# Altium footprint library Resistance.PcbLib: 24 footprints (part 1 of 2)
Each footprint in its own frame and in the unit in brackets; x right, y up, seen from the top. Pads: shape width x height; smd on the part's side, far side on the other; paste and mask are expansions set on the pad; w line width, h text height; cw(c..) or ccw(c..) is an arc to the next point about the centre after c.
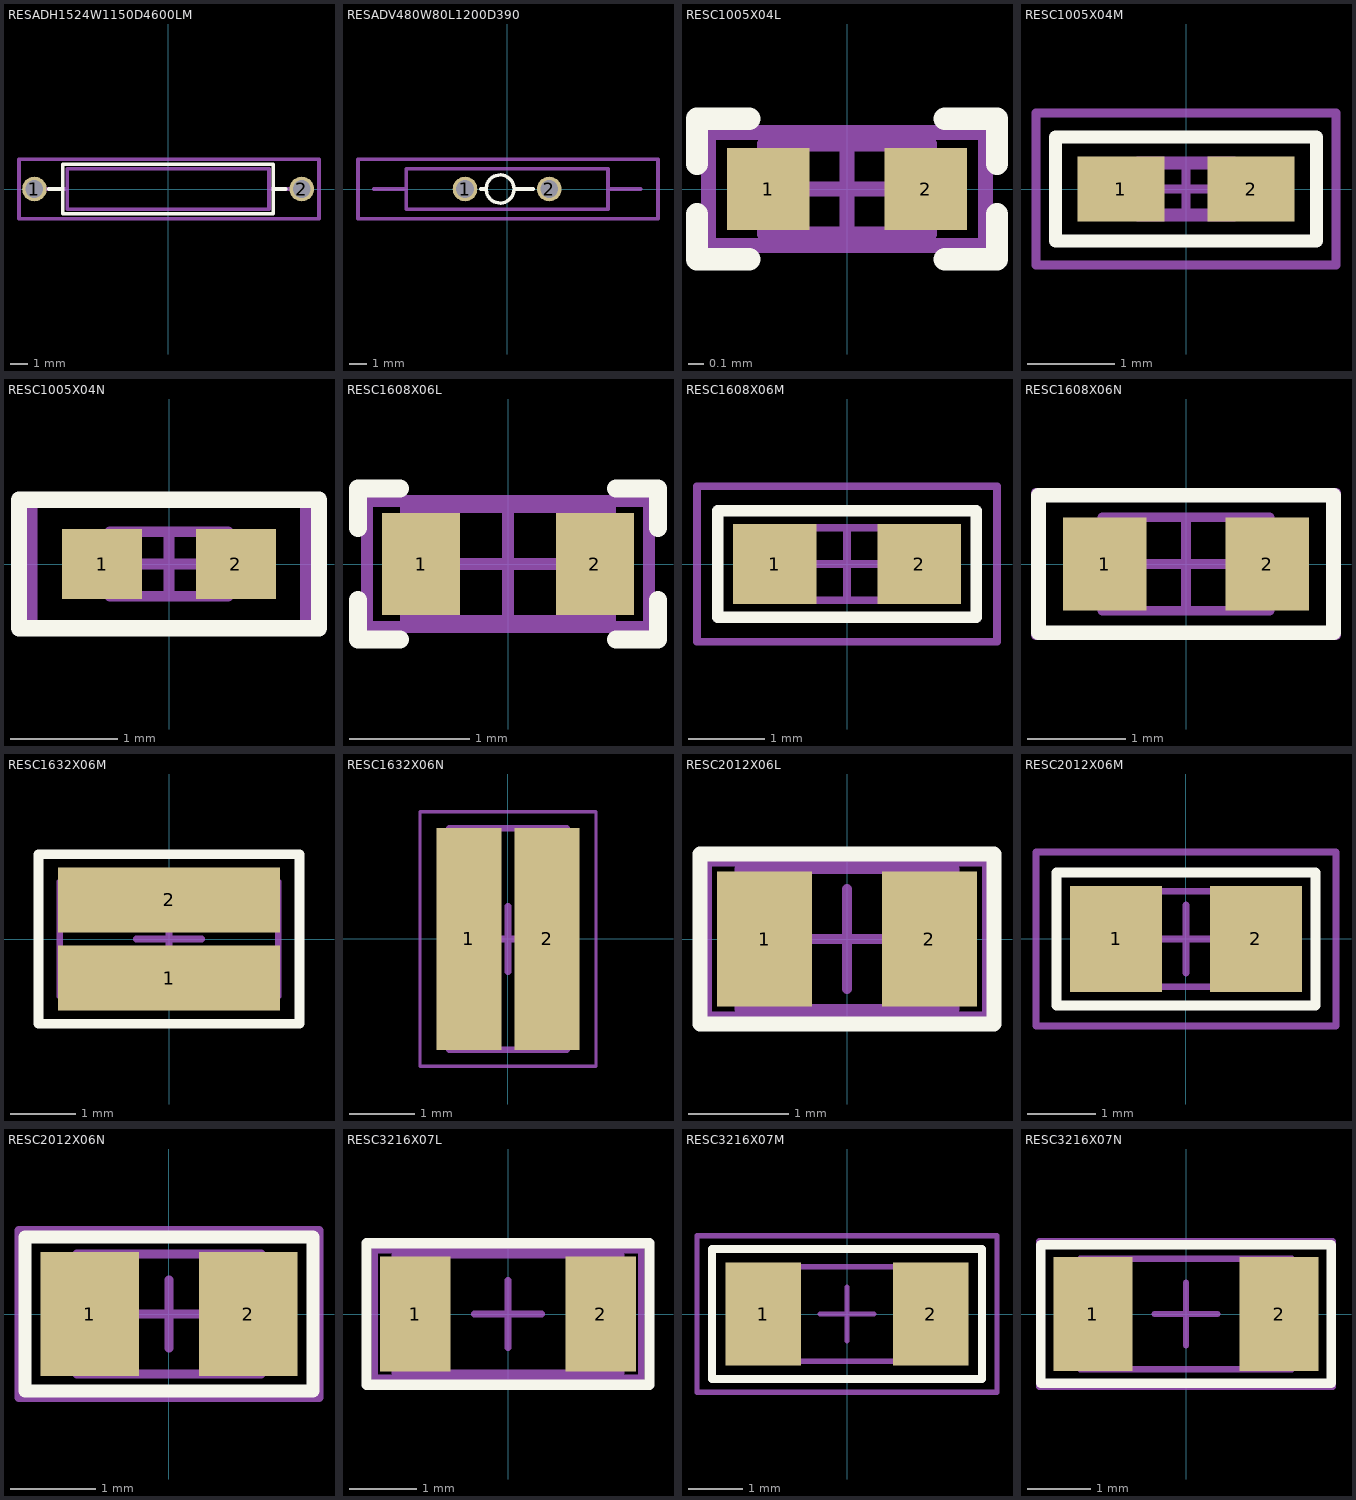
[diagram p0: the footprints below, top view; thin cyan lines are the x and y axes]

## RESADH1524W1150D4600LM [mm] "Wirebound Resistor pitch 15.24mm"
height 5.1
pads (2):
  round 1.4 hole 1: 1(-7.62,0) 2(7.62,0)
Top Overlay:
  lines w0.2: -6.8,0 -6,0 ; 6,0 6.695,0 ; -6,-1.4 -6,1.4 6,1.4 6,-1.4 -6,-1.4
Mechanical 7:
  lines w0.2: -7.6,0 -5.75,0 ; 5.77,0 7.62,0 ; -5.75,-1.15 -5.75,1.15 5.75,1.15 5.75,-1.15 -5.75,-1.15
  text ".Designator" at -5.5,-0.5 h1.2
Mechanical 9:
  lines w0.2: -8.5,-1.7 8.6,-1.7 8.6,1.7 -8.5,1.7 -8.5,-1.7
3D body "User Library-Half_watt_resistor_500spacing.step": height 4.18, standoff -5.2, extent -6.755,-1.875 6.695,1.875

## RESADV480W80L1200D390 [mm] "Wirebound Resistor pitch 4.8mm Radial tape"
height 12.5
pads (2):
  round 1.4 hole 1: 1(-2.4,0) 2(2.4,0)
Top Overlay:
  circle w0.2: c-0.4,0 r0.8
  lines w0.2: -1.5,0 -1.2,0 ; 0.4,0 1.5,0
Mechanical 7:
  lines w0.2: -7.6,0 -5.75,0 ; 5.77,0 7.62,0 ; -5.75,-1.15 -5.75,1.15 5.75,1.15 5.75,-1.15 -5.75,-1.15
  text ".Designator" at -5.5,-0.5 h1.2
Mechanical 9:
  lines w0.2: -8.5,-1.7 8.6,-1.7 8.6,1.7 -8.5,1.7 -8.5,-1.7
3D body "User Library-RESAD375W80L1600D500_2W.STEP": height 20.3, standoff -3.1, extent -4.225,-2.4 2.425,2.6

## RESC1005X04L [mm] "Chip Resistor, 2-Leads, Body 1,1x0,5mm, IPC High Density"
height 0.4
pads (2):
  rect 0.55x0.55 smd: 1(-0.525,0) 2(0.525,0)
Top Overlay:
  lines w0.15: -1,-0.17 -1,-0.47 -0.65,-0.47 ; -1,0.17 -1,0.47 -0.65,0.47 ; 0.65,-0.47 1,-0.47 1,-0.17 ; 0.65,0.47 1,0.47 1,0.17
Mechanical 7:
  lines w0.1: -0.55,-0.3 -0.55,0.3 0.55,0.3 0.55,-0.3 -0.55,-0.3
  text ".Designator" at -0.4,-0.2 h1.2
Mechanical 9:
  lines w0.1: -0.925,-0.375 -0.925,0.375 0.925,0.375 0.925,-0.375 -0.925,-0.375
Mechanical 15:
  lines w0.1: -0.3,0 0.3,0 ; 0,-0.3 0,0.3
3D body "User Library-RESC1005X04N.STEP": height 0.35, standoff 0, extent -0.5,-0.25 0.5,0.25

## RESC1005X04M [mm] "Chip Resistor, 2-Leads, Body 1,1x0,5mm, IPC Low Density"
height 0.4
pads (2):
  rect 1x0.75 smd: 1(-0.75,0) 2(0.75,0)
Top Overlay:
  lines w0.15: -1.5,-0.6 -1.5,0.6 1.5,0.6 1.5,-0.6 -1.5,-0.6
Mechanical 7:
  lines w0.15: -0.55,-0.3 0.55,-0.3 0.55,0.3 -0.55,0.3 -0.55,-0.3
  text ".Designator" at -0.4,-0.1 h1
Mechanical 9:
  lines w0.1: -1.725,-0.875 1.725,-0.875 1.725,0.875 -1.725,0.875 -1.725,-0.875
Mechanical 15:
  lines w0.1: -0.3,0 0.3,0 ; 0,-0.3 0,0.3
3D body "User Library-RESC1005X04N.STEP": height 0.35, standoff 0, extent -0.5,-0.25 0.5,0.25

## RESC1005X04N [mm] "Chip Resistor, 2-Leads, Body 1,1x0,5mm, IPC Medium Density"
height 0.4
pads (2):
  rect 0.75x0.65 smd: 1(-0.625,0) 2(0.625,0)
Top Overlay:
  lines w0.15: -1.4,-0.6 -1.4,0.6 1.4,0.6 1.4,-0.6 -1.4,-0.6
Mechanical 7:
  lines w0.1: -0.55,-0.3 0.55,-0.3 0.55,0.3 -0.55,0.3 -0.55,-0.3
  text ".Designator" at -0.4,-0.1 h1.2
Mechanical 9:
  lines w0.1: -1.275,-0.575 1.275,-0.575 1.275,0.575 -1.275,0.575 -1.275,-0.575
Mechanical 15:
  lines w0.1: -0.3,0 0.3,0 ; 0,-0.3 0,0.3
3D body "User Library-RESC1005X04N.STEP": height 0.35, standoff 0, extent -0.5,-0.25 0.5,0.25

## RESC1608X06L [mm] "Chip Resistor, 2-Leads, Body 1,6x0,8mm, IPC High Density"
height 0.6
pads (2):
  rect 0.65x0.85 smd: 1(-0.725,0) 2(0.725,0)
Top Overlay:
  lines w0.15: -1.25,-0.3 -1.25,-0.63 -0.9,-0.63 ; -1.25,0.3 -1.25,0.63 -0.9,0.63 ; 0.9,-0.63 1.25,-0.63 1.25,-0.3 ; 0.9,0.63 1.25,0.63 1.25,0.3
Mechanical 7:
  lines w0.1: -0.85,-0.475 -0.85,0.475 0.85,0.475 0.85,-0.475 -0.85,-0.475
  text ".Designator" at -0.6,-0.3 h1.2
Mechanical 9:
  lines w0.1: -1.175,-0.525 -1.175,0.525 1.175,0.525 1.175,-0.525 -1.175,-0.525
Mechanical 15:
  lines w0.1: -0.475,0 0.475,0 ; 0,-0.475 0,0.475
3D body "User Library-RESC1608X05N.STEP": height 0.8, standoff 0.35, extent -0.775,-0.425 0.775,0.425

## RESC1608X06M [mm] "Chip Resistor, 2-Leads, Body 1,6x0,8mm, IPC Low Density"
height 0.6
pads (2):
  rect 1.1x1.05 smd: 1(-0.95,0) 2(0.95,0)
Top Overlay:
  lines w0.15: -1.7,-0.7 1.7,-0.7 1.7,0.7 -1.7,0.7 -1.7,-0.7
Mechanical 7:
  lines w0.1: -0.85,-0.475 -0.85,0.475 0.85,0.475 0.85,-0.475 -0.85,-0.475
  text ".Designator" at -0.7,-0.4 h1.2
Mechanical 9:
  lines w0.1: -1.975,-1.025 -1.975,1.025 1.975,1.025 1.975,-1.025 -1.975,-1.025
Mechanical 15:
  lines w0.1: -0.475,0 0.475,0 ; 0,-0.475 0,0.475
3D body "User Library-RESC1608X05N.STEP": height 0.8, standoff 0.35, extent -0.775,-0.425 0.775,0.425

## RESC1608X06N [mm] "Chip Resistor, 2-Leads, Body 1,6x0,8mm, IPC Medium Density"
height 0.6
pads (2):
  rect 0.85x0.95 smd: 1(-0.825,0) 2(0.825,0)
Top Overlay:
  lines w0.15: -1.5,-0.7 -1.5,0.7 1.5,0.7 1.5,-0.7 -1.5,-0.7
Mechanical 7:
  lines w0.1: -0.85,-0.475 -0.85,0.475 0.85,0.475 0.85,-0.475 -0.85,-0.475
  text ".Designator" at -0.6,-0.3 h1.2
Mechanical 9:
  lines w0.1: -1.525,-0.725 -1.525,0.725 1.525,0.725 1.525,-0.725 -1.525,-0.725
Mechanical 15:
  lines w0.1: -0.475,0 0.475,0 ; 0,-0.475 0,0.475
3D body "User Library-RESC1608X05N.STEP": height 0.8, standoff 0.35, extent -0.775,-0.425 0.775,0.425

## RESC1632X06M [mm] "Chip Resistor, 2-Leads, Body 3,2x1,6mm, IPC Low Density"
height 0.6
pads (2):
  rect 3.4x1 smd: 1(0,-0.6) 2(0,0.6)
Top Overlay:
  lines w0.15: -2,-1.3 -2,1.3 2,1.3 2,-1.3 -2,-1.3
Mechanical 7:
  lines w0.1: -1.675,-0.875 1.675,-0.875 1.675,0.875 -1.675,0.875 -1.675,-0.875
  text ".Designator" at -1.4,-0.3 h1.2
Mechanical 9:
  lines w0.1: -2,-1.3 2,-1.3 2,1.3 -2,1.3 -2,-1.3
Mechanical 15:
  lines w0.1: -0.5,0 0.5,0 ; 0,-0.5 0,0.5
3D body "User Library-wk732b.step": height 0.71, standoff 0.1, extent -1.6,-0.8 1.6,0.8

## RESC1632X06N [mm] "Chip Resistor, 2-Leads, Body 1,60x3,20mm, IPC Medium Density"
height 0.6
pads (2):
  rect 1x3.4 smd: 1(-0.6,0) 2(0.6,0)
Mechanical 7:
  lines w0.1: -0.9,-1.7 0.9,-1.7 0.9,1.7 -0.9,1.7 -0.9,-1.7
Mechanical 9:
  lines w0.05: -1.35,-1.95 1.35,-1.95 1.35,1.95 -1.35,1.95 -1.35,-1.95
  lines w0.1: -0.5,0 0.5,0 ; 0,-0.5 0,0.5
3D body: height 0.6, standoff 0, extent 0.45,-1.7 0.9,1.7
3D body: height 0.6, standoff 0, extent -0.9,-1.7 -0.45,1.7
3D body: height 0.6, standoff 0, extent -0.45,-1.7 0.45,1.7

## RESC2012X06L [mm] "Chip Resistor, 2-Leads, Body 2,0x1,3mm, IPC High Density"
height 0.65
pads (2):
  rect 0.95x1.35 smd: 1(-0.825,0) 2(0.825,0)
Top Overlay:
  lines w0.15: -1.47,-0.85 1.47,-0.85 1.47,0.85 -1.47,0.85 -1.47,-0.85
Mechanical 7:
  lines w0.1: -1.075,-0.7 1.075,-0.7 1.075,0.7 -1.075,0.7 -1.075,-0.7
  text ".Designator" at -0.9,-0.3 h1.2
Mechanical 9:
  lines w0.1: -1.4,-0.775 1.4,-0.775 1.4,0.775 -1.4,0.775 -1.4,-0.775
Mechanical 15:
  lines w0.1: -0.5,0 0.5,0 ; 0,-0.5 0,0.5
3D body "User Library-RESC2012X05N.STEP": height 0.45, standoff 0, extent -1,-0.625 1,0.625

## RESC2012X06M [mm] "Chip Resistor, 2-Leads, Body 2,0x1,3mm, IPC Low Density"
height 0.65
pads (2):
  rect 1.35x1.55 smd: 1(-1.025,0) 2(1.025,0)
Top Overlay:
  lines w0.15: -1.9,-0.975 1.9,-0.975 1.9,0.975 -1.9,0.975 -1.9,-0.975
Mechanical 7:
  lines w0.1: -1.075,-0.7 1.075,-0.7 1.075,0.7 -1.075,0.7 -1.075,-0.7
  text ".Designator" at -0.9,-0.3 h1.2
Mechanical 9:
  lines w0.1: -2.2,-1.275 2.2,-1.275 2.2,1.275 -2.2,1.275 -2.2,-1.275
Mechanical 15:
  lines w0.1: -0.5,0 0.5,0 ; 0,-0.5 0,0.5
3D body "User Library-RESC2012X05N.STEP": height 0.45, standoff 0, extent -1,-0.625 1,0.625

## RESC2012X06N [mm] "Chip Resistor, 2-Leads, Body 2,0x1,3mm, IPC Medium Density"
height 0.65
pads (2):
  rect 1.15x1.45 smd: 1(-0.925,0) 2(0.925,0)
Top Overlay:
  lines w0.15: -1.68,-0.9 -1.68,0.9 1.68,0.9 1.68,-0.9 -1.68,-0.9
Mechanical 7:
  lines w0.1: -1.075,-0.7 1.075,-0.7 1.075,0.7 -1.075,0.7 -1.075,-0.7
  text ".Designator" at -0.9,-0.3 h1.2
Mechanical 9:
  lines w0.1: -1.75,-0.975 1.75,-0.975 1.75,0.975 -1.75,0.975 -1.75,-0.975
Mechanical 15:
  lines w0.1: -0.4,0 0.4,0 ; 0,-0.4 0,0.4
3D body "User Library-RESC2012X05N.STEP": height 0.45, standoff 0, extent -1,-0.625 1,0.625

## RESC3216X07L [mm] "Chip Resistor, 2-Leads, Body 3,2x1,6mm, IPC High Density"
height 0.71
pads (2):
  rect 1.05x1.7 smd: 1(-1.375,0) 2(1.375,0)
Top Overlay:
  lines w0.15: -2.1,-1.05 2.1,-1.05 2.1,1.05 -2.1,1.05 -2.1,-1.05
Mechanical 7:
  lines w0.1: -1.675,-0.875 1.675,-0.875 1.675,0.875 -1.675,0.875 -1.675,-0.875
  text ".Designator" at -1.5,-0.3 h1.2
Mechanical 9:
  lines w0.1: -1.975,-0.95 1.975,-0.95 1.975,0.95 -1.975,0.95 -1.975,-0.95
Mechanical 15:
  lines w0.1: -0.5,0 0.5,0 ; 0,-0.5 0,0.5
3D body "User Library-RESC3216X06N.STEP": height 0.55, standoff 0, extent -1.6,-0.8 1.6,0.8

## RESC3216X07M [mm] "Chip Resistor, 2-Leads, Body 3,2x1,6mm, IPC Low Density"
height 0.71
pads (2):
  rect 1.4x1.9 smd: 1(-1.55,0) 2(1.55,0)
Top Overlay:
  lines w0.15: -2.5,-1.2 2.5,-1.2 2.5,1.2 -2.5,1.2 -2.5,-1.2
Mechanical 7:
  lines w0.1: -1.675,-0.875 -1.675,0.875 1.675,0.875 1.675,-0.875 -1.675,-0.875
  text ".Designator" at -1.4,-0.3 h1.2
Mechanical 9:
  lines w0.1: -2.775,-1.45 -2.775,1.45 2.775,1.45 2.775,-1.45 -2.775,-1.45
Mechanical 15:
  lines w0.1: -0.5,0 0.5,0 ; 0,-0.5 0,0.5
3D body "User Library-RESC3216X06N.STEP": height 0.55, standoff 0, extent -1.6,-0.8 1.6,0.8

## RESC3216X07N [mm] "Chip Resistor, 2-Leads, Body 3,2x1,6mm, IPC Medium Density"
height 0.71
pads (2):
  rect 1.25x1.8 smd: 1(-1.475,0) 2(1.475,0)
Top Overlay:
  lines w0.15: -2.3,-1.1 2.3,-1.1 2.3,1.1 -2.3,1.1 -2.3,-1.1
Mechanical 7:
  lines w0.1: -1.675,-0.875 1.675,-0.875 1.675,0.875 -1.675,0.875 -1.675,-0.875
  text ".Designator" at -1.4,-0.3 h1.2
Mechanical 9:
  lines w0.1: -2.325,-1.15 2.325,-1.15 2.325,1.15 -2.325,1.15 -2.325,-1.15
Mechanical 15:
  lines w0.1: -0.5,0 0.5,0 ; 0,-0.5 0,0.5
3D body "User Library-RESC3216X06N.STEP": height 0.55, standoff 0, extent -1.6,-0.8 1.6,0.8